# EAGLE library part CD74HCT688 (library bschulz)
CD74HC688 - 8 bit Magnatude Comparator Characteristics: VCC: 2~6V Operating Temperature: -55°C to 125°C Output: Active Low Digikey: 296-28201-1-ND (TSSOP) <https://www.digikey.com/product-detail/en/texas-instruments/CD74HC688PWT/296-28201-1-ND/2523385> 296-38069-1-ND (SOIC) <https://www.digikey.com/product-detail/en/texas-instruments/CD74HC688M96/296-38069-1-ND/4967274> 296-33117-5-ND (DIP) <https://www.digikey.com/product-detail/en/texas-instruments/CD74HC688E/296-33117-5-ND/1507427>
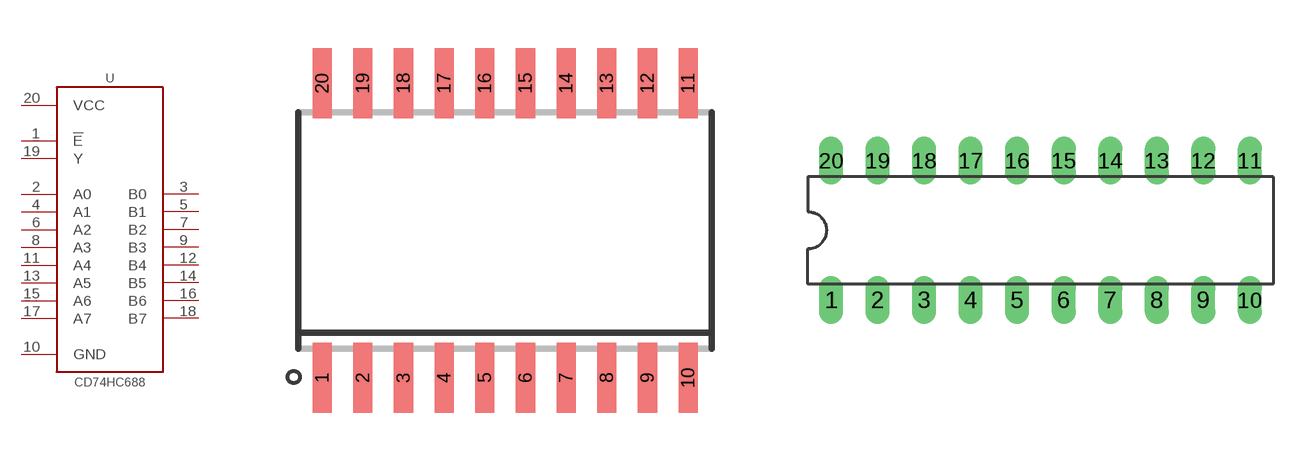
[diagram p49: symbol with the pads of SO-20DW; footprints SO-20DW, DIL20]

Designator prefix U

## CD74HCT688DW  [SO-20DW]
1  !E  in
2  A0  in
3  B0  in
4  A1  in
5  B1  in
6  A2  in
7  B2  in
8  A3  in
9  B3  in
10  GND  pwr
11  A4  in
12  B4  in
13  A5  in
14  B5  in
15  A6  in
16  B6  in
17  A7  in
18  B7  in
19  Y  out
20  VCC  pwr

## CD74HCT688E  [DIL20]
Pads as for SO-20DW

## Footprint SO-20DW (pad centres in mm)
Small Outline Integrated Circuit wide
smd 0.6 x 2.2: 1 -5.715,-4.6; 2 -4.445,-4.6; 3 -3.175,-4.6; 4 -1.905,-4.6; 5 -0.635,-4.6; 6 0.635,-4.6; 7 1.905,-4.6; 8 3.175,-4.6; 9 4.445,-4.6; 10 5.715,-4.6; 11 5.715,4.6; 12 4.445,4.6; 13 3.175,4.6; 14 1.905,4.6; 15 0.635,4.6; 16 -0.635,4.6; 17 -1.905,4.6; 18 -3.175,4.6; 19 -4.445,4.6; 20 -5.715,4.6

## Footprint DIL20 (pad centres in mm)
Dual In Line Package
drill 0.813 long: 1 -11.43,-3.81; 2 -8.89,-3.81; 3 -6.35,-3.81; 4 -3.81,-3.81; 5 -1.27,-3.81; 6 1.27,-3.81; 7 3.81,-3.81; 8 6.35,-3.81; 9 8.89,-3.81; 10 11.43,-3.81; 11 11.43,3.81; 12 8.89,3.81; 13 6.35,3.81; 14 3.81,3.81; 15 1.27,3.81; 16 -1.27,3.81; 17 -3.81,3.81; 18 -6.35,3.81; 19 -8.89,3.81; 20 -11.43,3.81